# EAGLE library part MIC5355 (library alvie)
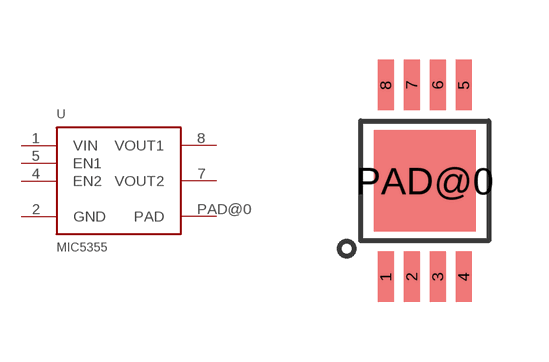
[diagram p25: symbol with the pads of MSOP8-EPAD; footprint MSOP8-EPAD]

Designator prefix -

## MIC5355  [MSOP8-EPAD]
1  VIN  sup
2  GND  pwr
4  EN2  in
5  EN1  in
7  VOUT2  pwr
8  VOUT1  pwr
PAD@0  PAD  pwr

## Footprint MSOP8-EPAD (pad centres in mm)
smd 0.4 x 1.26: 1 -0.975,-2.4; 2 -0.325,-2.4; 3 0.325,-2.4; 4 0.975,-2.4; 5 0.975,2.4; 6 0.325,2.4; 7 -0.325,2.4; 8 -0.975,2.4
smd 2.54 x 2.54: PAD@0 0,0